# EAGLE library part TSL1401CCS (library mille-feuille)
The TSL1401CCS linear sensor array consists of a 128 × 1 array of photodiodes, associated charge amplifier circuitry, and a pixel data-hold function that provides simultaneous-integration start and stop times for all pixels. The pixels measure 63.5μm (H) by 55.5μm (W) with 63.5μm center-to-center spacing and 8μm spacing between pixels. Operation is simplified by internal control logic that requires only a serial-input (SI) signal and a clock.
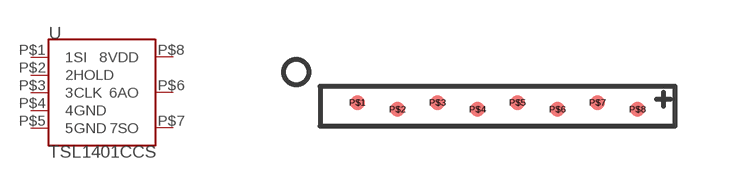
[diagram p55: symbol with the pads of TSL1401CCS; footprint TSL1401CCS]

Designator prefix U

## TSL1401CCS  [TSL1401CCS]
P$1  1SI
P$2  2HOLD
P$3  3CLK
P$4  4GND
P$5  5GND
P$6  6AO
P$7  7SO
P$8  8VDD

## Footprint TSL1401CCS (pad centres in mm)
smd 0.38 x 0.38: P$1 0,0.085; P$2 1,-0.085; P$3 2,0.085; P$4 3,-0.085; P$5 4,0.085; P$6 5,-0.085; P$7 6,0.085; P$8 7,-0.085